# EAGLE library part 74*152 (library 74)
Data SELECTOR/MULTIPLEXER
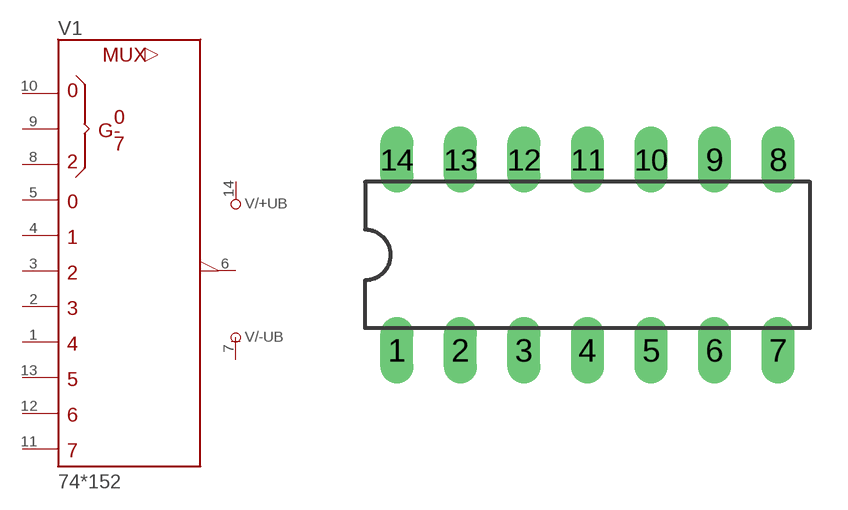
[diagram p45: symbol with the pads of DIL14; footprint DIL14]

Designator prefix V; gates /+UB=+UB /-UB=-UB 1=152

## 74152N  [DIL14]
1  1:D4  in
2  1:D3  in
3  1:D2  in
4  1:D1  in
5  1:D0  in
6  1:W  out
7  /-UB:-UB  pwr
8  1:C  in
9  1:B  in
10  1:A  in
11  1:D7  in
12  1:D6  in
13  1:D5  in
14  /+UB:+UB  pwr

## Footprint DIL14 (pad centres in mm)
Dual In Line Package
drill 0.813 long: 1 -7.62,-3.81; 2 -5.08,-3.81; 3 -2.54,-3.81; 4 0,-3.81; 5 2.54,-3.81; 6 5.08,-3.81; 7 7.62,-3.81; 8 7.62,3.81; 9 5.08,3.81; 10 2.54,3.81; 11 0,3.81; 12 -2.54,3.81; 13 -5.08,3.81; 14 -7.62,3.81